# Altium schematic symbol library EC2-3NU.SchLib: 1 symbol
Pins are listed as number, name and electrical type; pins without a type are passive.

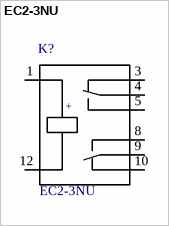
[diagram p0: symbol EC2-3NU]

## EC2-3NU
designator K?
MF: KEMET; Package: None; Price: None; SnapEDA_Link: https://www.snapeda.com/parts/EC2-3NU/KEMET/view-part/?ref=snap; MP: EC2-3NU; Availability: Unavailable; Value: *
footprint *KEMET_EC2-3NU
pins: 1, 3, 4, 5, 8, 9, 10, 12
text: +